# Altium schematic symbol library MB0001B.01.A.1.SchLib: 1 symbol
Pins are listed as number, name and electrical type; pins without a type are passive.

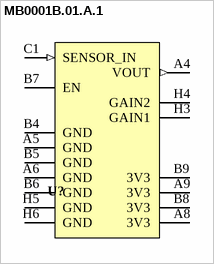
[diagram p0: symbol MB0001B.01.A.1]

## MB0001B.01.A.1
designator U?
pins: A4 VOUT (out), A5 GND (power), A6 GND (power), A8 3V3 (power), A9 3V3 (power), B4 GND (power), B5 GND (power), B6 GND (power), B7 EN, B8 3V3 (power), B9 3V3 (power), C1 SENSOR_IN (in), H3 GAIN1, H4 GAIN2, H5 GND (power), H6 GND (power)